# EAGLE library part SST25PF016C (library zkseagle)
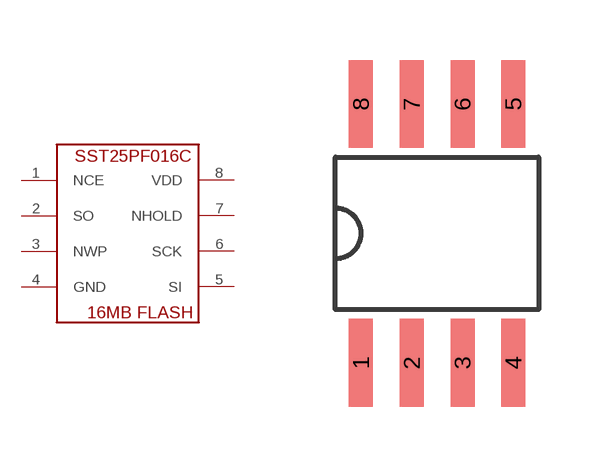
[diagram p29: symbol with the pads of SO8_WIDE_P; footprint SO8_WIDE_P]

Designator prefix -

## SST25PF016C  [SO8_WIDE_P]
1  NCE  in
2  SO  out
3  NWP  in
4  GND  pwr
5  SI  in
6  SCK  in
7  NHOLD  in
8  VDD  pwr

## Footprint SO8_WIDE_P (pad centres in mm)
SMALL OUTLINE INTEGRATED CIRCUIT SOP-8L Source: http://www.diodes.com/datasheets/ds31262.pdf
smd 0.6 x 2.2: 1 0,-0.06; 2 1.27,-0.06; 3 2.54,-0.06; 4 3.81,-0.06; 5 3.81,6.41; 6 2.54,6.41; 7 1.27,6.41; 8 0,6.41